# Altium footprint library vga.PcbLib: 95 footprints (part 3 of 7)
Each footprint in its own frame and in the unit in brackets; x right, y up, seen from the top. Pads: shape width x height; smd on the part's side, far side on the other; paste and mask are expansions set on the pad; w line width, h text height; cw(c..) or ccw(c..) is an arc to the next point about the centre after c.
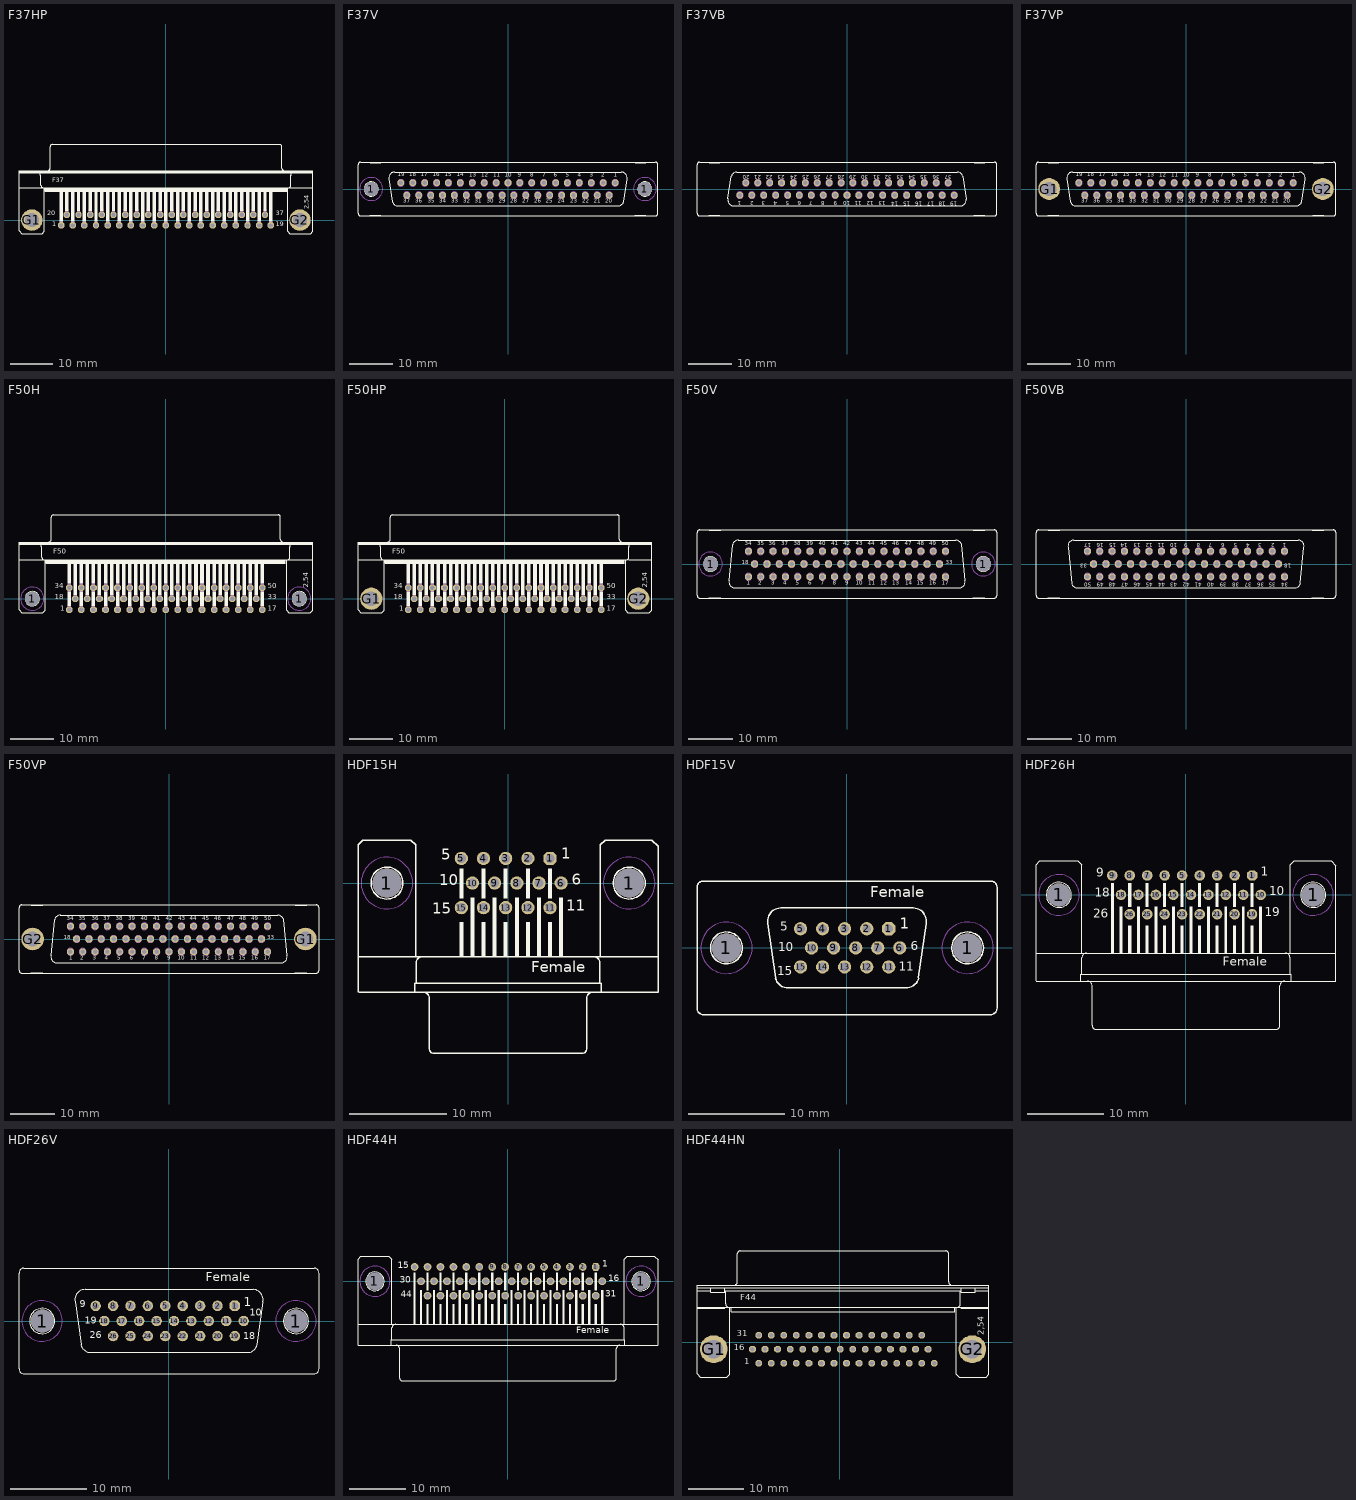
[diagram p2: the footprints below, top view; thin cyan lines are the x and y axes]

## F37HP [mil]
pads (39):
  oct 60x60 hole 40: 1(-978,-50) 2(-869,-50) 3(-761,-50) 4(-652,-50) 5(-543,-50) 6(-435,-50) 7(-326,-50) 8(-217,-50) 9(-109,-50) 10(0,-50) 11(109,-50) 12(217,-50) 13(326,-50) 14(435,-50) 15(544,-50) 16(652,-50) 17(761,-50) 18(870,-50) 19(978,-50) 20(-924,50) 21(-815,50) 22(-706,50) 23(-598,50) 24(-489,50) 25(-380,50) 26(-272,50) 27(-163,50) 28(-54,50) 29(54,50) 30(163,50) 31(272,50) 32(381,50) 33(489,50) 34(598,50) 35(707,50) 36(815,50) 37(924,50)
  round 200 hole 130: G1(-1250,0) G2(1250,0)
Top Overlay:
  circle w6: c-1250,0 r65
  circle w6: c1250,0 r65
  rectangle: -1125,270 1125,300
  rectangle: -1370,440 1370,460
  rectangle: -994,-15 -962,270
  rectangle: -940,85 -908,270
  rectangle: -885,-15 -853,270
  rectangle: -831,85 -799,270
  rectangle: -777,-15 -745,270
  rectangle: -722,85 -690,270
  rectangle: -668,-15 -636,270
  rectangle: -614,85 -582,270
  rectangle: -559,-15 -527,270
  rectangle: -505,85 -473,270
  rectangle: -451,-15 -419,270
  rectangle: -396,85 -364,270
  rectangle: -342,-15 -310,270
  rectangle: -288,85 -256,270
  rectangle: -233,-15 -201,270
  rectangle: -179,85 -147,270
  rectangle: -124,-15 -92,270
  rectangle: -70,85 -38,270
  rectangle: -16,-15 16,270
  rectangle: 38,85 70,270
  rectangle: 93,-15 125,270
  rectangle: 147,85 179,270
  rectangle: 201,-15 233,270
  rectangle: 256,85 288,270
  rectangle: 310,-15 342,270
  rectangle: 364,85 396,270
  rectangle: 419,-15 451,270
  rectangle: 473,85 505,270
  rectangle: 528,-15 560,270
  rectangle: 582,85 614,270
  rectangle: 636,-15 668,270
  rectangle: 691,85 723,270
  rectangle: 746,-15 778,270
  rectangle: 799,85 831,270
  rectangle: 853,-15 885,270
  rectangle: 908,85 940,270
  rectangle: 962,-15 994,270
  lines w6: -1140,300 cw(c-1140,325) -1165,325 -1165,420 -1170,420 -1170,440 ; -1105,460 ccw(c-1105,485) -1080,485 -1080,685 cw(c-1060,685) -1060,705 -1050,705 1050,705 1060,705 cw(c1060,685) 1080,685 1080,485 ccw(c1105,485) 1105,460 ; 1140,300 ccw(c1140,325) 1165,325 1165,420 1170,420 1170,440 ; -1370,300 -1170,300 -1135,300 ; -1370,300 -1370,420 -1370,440 ; -1370,300 -1370,295 -1370,-100 -1345,-125 -1155,-125 -1135,-105 -1135,300 ; -1370,440 -1370,460 -1065,460 1065,460 1370,460 1370,440 ; -1370,440 -1270,440 -1170,440 ; -1170,440 1170,440 ; -1135,300 -1125,300 ; -1125,300 -1125,270 1125,270 1125,300 ; -1125,300 1125,300 ; 1125,300 1135,300 ; 1135,300 1170,300 1370,300 ; 1135,300 1135,-105 1155,-125 1350,-125 1370,-105 1370,295 1370,300 ; 1170,440 1270,440 1370,440 ; 1370,300 1370,420 1370,440
  text "1" at -1060,-75 h77.5
  text "19" at 1025,-75 h77.5
  text "20" at -1105,25 h77.5
  text "37" at 1025,25 h77.5
  text "2,54" at 1350,100 h77.5
  text "F37" at -1060,335 h77.5
Mechanical 2:
  text ">NAME" at -1360,-250 h108.5
Mechanical 4:
  text ">VALUE" at -700,550 h108.5
Mechanical 16:
  lines w32: -978,-45 -978,-5 ; -924,55 -924,95 ; -869,-45 -869,-5 ; -815,55 -815,95 ; -761,-45 -761,-5 ; -706,55 -706,95 ; -652,-45 -652,-5 ; -598,55 -598,95 ; -543,-45 -543,-5 ; -489,55 -489,95 ; -435,-45 -435,-5 ; -380,55 -380,95 ; -326,-45 -326,-5 ; -272,55 -272,95 ; -217,-45 -217,-5 ; -163,55 -163,95 ; -109,-45 -109,-5 ; -54,55 -54,95 ; 0,-45 0,-5 ; 54,55 54,95 ; 109,-45 109,-5 ; 163,55 163,95 ; 217,-45 217,-5 ; 272,55 272,95 ; 326,-45 326,-5 ; 380,55 380,95 ; 435,-45 435,-5 ; 489,55 489,95 ; 544,-45 544,-5 ; 598,55 598,95 ; 652,-45 652,-5 ; 707,55 707,95 ; 761,-45 761,-5 ; 815,55 815,95 ; 870,-45 870,-5 ; 924,55 924,95 ; 978,-45 978,-5

## F37V [mil]
pads (39):
  round 130 hole 130: 1(-1250,0) 1(1250,0)
  oct 60x60 hole 40: 1(978,56) 2(869,56) 3(761,56) 4(652,56) 5(543,56) 6(435,56) 7(326,56) 8(217,56) 9(109,56) 10(0,56) 11(-109,56) 12(-217,56) 13(-326,56) 14(-435,56) 15(-544,56) 16(-652,56) 17(-761,56) 18(-870,56) 19(-978,56) 20(924,-56) 21(815,-56) 22(706,-56) 23(598,-56) 24(489,-56) 25(380,-56) 26(272,-56) 27(163,-56) 28(54,-56) 29(-54,-56) 30(-163,-56) 31(-272,-56) 32(-381,-56) 33(-489,-56) 34(-598,-56) 35(-707,-56) 36(-815,-56) 37(-924,-56)
Top Overlay:
  circle w6: c-1250,0 r65
  circle w6: c1250,0 r65
  lines w6: -1087,92 -1056,-116 ; -1086.97,92 cw(c-1035.16,102.2) -1035,155 1035,155 cw(c1035.22,102.06) 1087,91 1056,-115 ; -1056.3,-115.33 ccw(c-1005,-102) -1005,-155 1005,-155 ccw(c1005.23,-101.7) 1057,-114.37 ; -1260,-245 -1260,-240 -1160,-240 -1160,-245 ; -1260,-245 -1160,-245 ; -1260,-245 -1345,-245 cw(c-1345,-220) -1370,-220 -1370,220 cw(c-1345,220) -1345,245 -1260,245 ; -1260,245 -1260,240 -1160,240 -1160,245 ; -1260,245 -1160,245 ; -1160,-245 1160,-245 ; -1160,245 1160,245 ; 1160,-245 1160,-240 1260,-240 1260,-245 ; 1160,-245 1260,-245 ; 1160,245 1160,240 1260,240 1260,245 ; 1160,245 1260,245 ; 1260,-245 1345,-245 ccw(c1345,-220) 1370,-220 1370,220 ccw(c1345,220) 1345,245 1260,245
  text "1" at 966,100 h60.45
  text "2" at 851,100 h60.45
  text "3" at 746,100 h60.45
  text "4" at 636,100 h60.45
  text "5" at 526,100 h60.45
  text "6" at 416,100 h60.45
  text "7" at 311,100 h60.45
  text "8" at 201,100 h60.45
  text "9" at 91,100 h60.45
  text "10" at -29,100 h60.45
  text "11" at -134,100 h60.45
  text "12" at -244,100 h60.45
  text "13" at -354,100 h60.45
  text "25" at 343,-140 h60.45
  text "24" at 453,-140 h60.45
  text "23" at 568,-140 h60.45
  text "22" at 678,-140 h60.45
  text "21" at 783,-140 h60.45
  text "20" at 888,-140 h60.45
  text "19" at -1007,101 h60.45
  text "18" at -902,101 h60.45
  text "17" at -797,101 h60.45
  text "16" at -687,101 h60.45
  text "15" at -577,101 h60.45
  text "14" at -467,101 h60.45
  text "26" at 240,-140 h60.45
  text "27" at 130,-140 h60.45
  text "28" at 20,-140 h60.45
  text "29" at -85,-140 h60.45
  text "30" at -195,-140 h60.45
  text "31" at -305,-140 h60.45
  text "32" at -410,-140 h60.45
  text "33" at -520,-140 h60.45
  text "34" at -630,-140 h60.45
  text "35" at -735,-140 h60.45
  text "36" at -845,-140 h60.45
  text "37" at -955,-140 h60.45
Mechanical 2:
  text ">NAME" at -1365,275 h108.5
Mechanical 4:
  text ">VALUE" at -100,275 h108.5
Mechanical 9:
  circle w0: c1250,0 r105
  circle w0: c-1250,0 r105
Mechanical 10:
  circle w0: c1250,0 r105
  circle w0: c-1250,0 r105
Mechanical 16:
  circle w10: c54,-56 r30
  circle w10: c0,56 r30
  circle w10: c-54,-56 r30
  circle w10: c109,56 r30
  circle w10: c-109,56 r30
  circle w10: c163,-56 r30
  circle w10: c-163,-56 r30
  circle w10: c217,56 r30
  circle w10: c326,56 r30
  circle w10: c272,-56 r30
  circle w10: c380,-56 r30
  circle w10: c435,56 r30
  circle w10: c489,-56 r30
  circle w10: c543,56 r30
  circle w10: c598,-56 r30
  circle w10: c652,56 r30
  circle w10: c-217,56 r30
  circle w10: c-326,56 r30
  circle w10: c-435,56 r30
  circle w10: c-272,-56 r30
  circle w10: c-380,-56 r30
  circle w10: c-489,-56 r30
  circle w10: c-543,56 r30
  circle w10: c-652,56 r30
  circle w10: c-598,-56 r30
  circle w10: c761,56 r30
  circle w10: c869,56 r30
  circle w10: c978,56 r30
  circle w10: c706,-56 r30
  circle w10: c815,-56 r30
  circle w10: c924,-56 r30
  circle w10: c-761,56 r30
  circle w10: c-869,56 r30
  circle w10: c-978,56 r30
  circle w10: c-706,-56 r30
  circle w10: c-815,-56 r30
  circle w10: c-924,-56 r30

## F37VB [mil]
pads (37):
  oct 60x60 hole 40: 1(-978,-56) 2(-869,-56) 3(-761,-56) 4(-652,-56) 5(-543,-56) 6(-435,-56) 7(-326,-56) 8(-217,-56) 9(-109,-56) 10(0,-56) 11(109,-56) 12(217,-56) 13(326,-56) 14(435,-56) 15(544,-56) 16(652,-56) 17(761,-56) 18(870,-56) 19(978,-56) 20(-924,56) 21(-815,56) 22(-706,56) 23(-598,56) 24(-489,56) 25(-380,56) 26(-272,56) 27(-163,56) 28(-54,56) 29(54,56) 30(163,56) 31(272,56) 32(381,56) 33(489,56) 34(598,56) 35(707,56) 36(815,56) 37(924,56)
Top Overlay:
  lines w6: -1087,-91 -1056,115 ; -1086.79,-90.7 ccw(c-1035,-101.99) -1035,-155 1035,-155 ccw(c1035.01,-101.99) 1087,-91.61 ; -1056.52,115 cw(c-1005.39,102.31) -1005,155 1005,155 cw(c1005.78,101.88) 1057,116 ; 1056,116 1087,-92 ; -1260,-245 -1345,-245 cw(c-1345,-220) -1370,-220 -1370,220 cw(c-1345,220) -1345,245 -1260,245 ; -1260,-245 -1260,-240 -1160,-240 -1160,-245 ; -1260,-245 -1160,-245 ; -1260,245 -1160,245 ; -1260,245 -1260,240 -1160,240 -1160,245 ; -1160,-245 1160,-245 ; -1160,245 1160,245 ; 1160,-245 1160,-240 1260,-240 1260,-245 ; 1160,-245 1260,-245 ; 1160,245 1260,245 ; 1160,245 1160,240 1260,240 1260,245 ; 1260,-245 1345,-245 ccw(c1345,-220) 1370,-220 1370,220 ccw(c1345,220) 1345,245 1260,245
  text "1" at -966,-100 h60.45
  text "2" at -851,-100 h60.45
  text "3" at -746,-100 h60.45
  text "4" at -636,-100 h60.45
  text "5" at -526,-100 h60.45
  text "6" at -416,-100 h60.45
  text "7" at -311,-100 h60.45
  text "8" at -201,-100 h60.45
  text "9" at -91,-100 h60.45
  text "10" at 29,-100 h60.45
  text "11" at 134,-100 h60.45
  text "12" at 244,-100 h60.45
  text "13" at 354,-100 h60.45
  text "25" at -343,140 h60.45
  text "24" at -453,140 h60.45
  text "23" at -568,140 h60.45
  text "22" at -678,140 h60.45
  text "21" at -783,140 h60.45
  text "20" at -888,140 h60.45
  text "19" at 1007,-101 h60.45
  text "18" at 902,-101 h60.45
  text "17" at 797,-101 h60.45
  text "16" at 687,-101 h60.45
  text "15" at 577,-101 h60.45
  text "14" at 467,-101 h60.45
  text "26" at -240,140 h60.45
  text "27" at -130,140 h60.45
  text "28" at -20,140 h60.45
  text "29" at 85,140 h60.45
  text "30" at 195,140 h60.45
  text "31" at 305,140 h60.45
  text "32" at 410,140 h60.45
  text "33" at 520,140 h60.45
  text "34" at 630,140 h60.45
  text "35" at 735,140 h60.45
  text "36" at 845,140 h60.45
  text "37" at 955,140 h60.45
Mechanical 2:
  text ">NAME" at -1365,325 h108.5
Mechanical 4:
  text ">VALUE" at -700,325 h108.5
Mechanical 16:
  circle w10: c-54,56 r30
  circle w10: c0,-56 r30
  circle w10: c54,56 r30
  circle w10: c-109,-56 r30
  circle w10: c109,-56 r30
  circle w10: c-163,56 r30
  circle w10: c163,56 r30
  circle w10: c-217,-56 r30
  circle w10: c-326,-56 r30
  circle w10: c-272,56 r30
  circle w10: c-380,56 r30
  circle w10: c-435,-56 r30
  circle w10: c-489,56 r30
  circle w10: c-543,-56 r30
  circle w10: c-598,56 r30
  circle w10: c-652,-56 r30
  circle w10: c217,-56 r30
  circle w10: c326,-56 r30
  circle w10: c435,-56 r30
  circle w10: c272,56 r30
  circle w10: c380,56 r30
  circle w10: c489,56 r30
  circle w10: c543,-56 r30
  circle w10: c652,-56 r30
  circle w10: c598,56 r30
  circle w10: c-761,-56 r30
  circle w10: c-869,-56 r30
  circle w10: c-978,-56 r30
  circle w10: c-706,56 r30
  circle w10: c-815,56 r30
  circle w10: c-924,56 r30
  circle w10: c761,-56 r30
  circle w10: c869,-56 r30
  circle w10: c978,-56 r30
  circle w10: c706,56 r30
  circle w10: c815,56 r30
  circle w10: c924,56 r30

## F37VP [mil]
pads (39):
  oct 60x60 hole 40: 1(978,56) 2(869,56) 3(761,56) 4(652,56) 5(543,56) 6(435,56) 7(326,56) 8(217,56) 9(109,56) 10(0,56) 11(-109,56) 12(-217,56) 13(-326,56) 14(-435,56) 15(-544,56) 16(-652,56) 17(-761,56) 18(-870,56) 19(-978,56) 20(924,-56) 21(815,-56) 22(706,-56) 23(598,-56) 24(489,-56) 25(380,-56) 26(272,-56) 27(163,-56) 28(54,-56) 29(-54,-56) 30(-163,-56) 31(-272,-56) 32(-381,-56) 33(-489,-56) 34(-598,-56) 35(-707,-56) 36(-815,-56) 37(-924,-56)
  round 200 hole 130: G1(-1250,0) G2(1250,0)
Top Overlay:
  circle w6: c-1250,0 r65
  circle w6: c1250,0 r65
  lines w6: -1087,92 -1056,-116 ; -1086.97,92 cw(c-1035.16,102.2) -1035,155 1035,155 cw(c1035.22,102.06) 1087,91 1056,-115 ; -1056.3,-115.33 ccw(c-1005,-102) -1005,-155 1005,-155 ccw(c1005.23,-101.7) 1057,-114.37 ; -1260,-245 -1260,-240 -1160,-240 -1160,-245 ; -1260,-245 -1160,-245 ; -1260,-245 -1345,-245 cw(c-1345,-220) -1370,-220 -1370,220 cw(c-1345,220) -1345,245 -1260,245 ; -1260,245 -1260,240 -1160,240 -1160,245 ; -1260,245 -1160,245 ; -1160,-245 1160,-245 ; -1160,245 1160,245 ; 1160,-245 1160,-240 1260,-240 1260,-245 ; 1160,-245 1260,-245 ; 1160,245 1160,240 1260,240 1260,245 ; 1160,245 1260,245 ; 1260,-245 1345,-245 ccw(c1345,-220) 1370,-220 1370,220 ccw(c1345,220) 1345,245 1260,245
  text "1" at 966,100 h60.45
  text "2" at 851,100 h60.45
  text "3" at 746,100 h60.45
  text "4" at 636,100 h60.45
  text "5" at 526,100 h60.45
  text "6" at 416,100 h60.45
  text "7" at 311,100 h60.45
  text "8" at 201,100 h60.45
  text "9" at 91,100 h60.45
  text "10" at -29,100 h60.45
  text "11" at -134,100 h60.45
  text "12" at -244,100 h60.45
  text "13" at -354,100 h60.45
  text "25" at 343,-140 h60.45
  text "24" at 453,-140 h60.45
  text "23" at 568,-140 h60.45
  text "22" at 678,-140 h60.45
  text "21" at 783,-140 h60.45
  text "20" at 888,-140 h60.45
  text "19" at -1007,101 h60.45
  text "18" at -902,101 h60.45
  text "17" at -797,101 h60.45
  text "16" at -687,101 h60.45
  text "15" at -577,101 h60.45
  text "14" at -467,101 h60.45
  text "26" at 240,-140 h60.45
  text "27" at 130,-140 h60.45
  text "28" at 20,-140 h60.45
  text "29" at -85,-140 h60.45
  text "30" at -195,-140 h60.45
  text "31" at -305,-140 h60.45
  text "32" at -410,-140 h60.45
  text "33" at -520,-140 h60.45
  text "34" at -630,-140 h60.45
  text "35" at -735,-140 h60.45
  text "36" at -845,-140 h60.45
  text "37" at -955,-140 h60.45
Mechanical 2:
  text ">NAME" at -1365,275 h108.5
Mechanical 4:
  text ">VALUE" at -100,275 h108.5
Mechanical 16:
  circle w10: c54,-56 r30
  circle w10: c0,56 r30
  circle w10: c-54,-56 r30
  circle w10: c109,56 r30
  circle w10: c-109,56 r30
  circle w10: c163,-56 r30
  circle w10: c-163,-56 r30
  circle w10: c217,56 r30
  circle w10: c326,56 r30
  circle w10: c272,-56 r30
  circle w10: c380,-56 r30
  circle w10: c435,56 r30
  circle w10: c489,-56 r30
  circle w10: c543,56 r30
  circle w10: c598,-56 r30
  circle w10: c652,56 r30
  circle w10: c-217,56 r30
  circle w10: c-326,56 r30
  circle w10: c-435,56 r30
  circle w10: c-272,-56 r30
  circle w10: c-380,-56 r30
  circle w10: c-489,-56 r30
  circle w10: c-543,56 r30
  circle w10: c-652,56 r30
  circle w10: c-598,-56 r30
  circle w10: c761,56 r30
  circle w10: c869,56 r30
  circle w10: c978,56 r30
  circle w10: c706,-56 r30
  circle w10: c815,-56 r30
  circle w10: c924,-56 r30
  circle w10: c-761,56 r30
  circle w10: c-869,56 r30
  circle w10: c-978,56 r30
  circle w10: c-706,-56 r30
  circle w10: c-815,-56 r30
  circle w10: c-924,-56 r30

## F50H [mil]
pads (52):
  round 130 hole 130: 1(-1203,0) 1(1203,0)
  oct 60x60 hole 40: 1(-869,-100) 2(-761,-100) 3(-652,-100) 4(-543,-100) 5(-435,-100) 6(-326,-100) 7(-217,-100) 8(-109,-100) 9(0,-100) 10(109,-100) 11(217,-100) 12(326,-100) 13(435,-100) 14(543,-100) 15(652,-100) 16(761,-100) 17(869,-100) 18(-815,0) 19(-707,0) 20(-598,0) 21(-489,0) 22(-381,0) 23(-272,0) 24(-163,0) 25(-55,0) 26(54,0) 27(163,0) 28(271,0) 29(380,0) 30(489,0) 31(598,0) 32(706,0) 33(815,0) 34(-869,100) 35(-761,100) 36(-652,100) 37(-543,100) 38(-435,100) 39(-326,100) 40(-217,100) 41(-109,100) 42(0,100) 43(109,100) 44(217,100) 45(326,100) 46(435,100) 47(543,100) 48(652,100) 49(761,100) 50(869,100)
Top Overlay:
  circle w6: c-1203,0 r65
  circle w6: c1203,0 r65
  rectangle: -1322,490 1323,510
  rectangle: -1077,320 1078,350
  rectangle: -885,-65 -853,65
  rectangle: -831,35 -799,320
  rectangle: -885,135 -853,320
  rectangle: -777,135 -745,320
  rectangle: -668,135 -636,320
  rectangle: -559,135 -527,320
  rectangle: -451,135 -419,320
  rectangle: -342,135 -310,320
  rectangle: -233,135 -201,320
  rectangle: -125,135 -93,320
  rectangle: -16,135 16,320
  rectangle: 93,135 125,320
  rectangle: 201,135 233,320
  rectangle: 419,135 451,320
  rectangle: 310,135 342,320
  rectangle: 527,135 559,320
  rectangle: 636,135 668,320
  rectangle: 745,135 777,320
  rectangle: 853,135 885,320
  rectangle: -777,-66 -745,64
  rectangle: -723,35 -691,320
  rectangle: -668,-65 -636,65
  rectangle: -559,-65 -527,65
  rectangle: -614,35 -582,320
  rectangle: -505,35 -473,320
  rectangle: -397,35 -365,320
  rectangle: -451,-65 -419,65
  rectangle: -342,-65 -310,65
  rectangle: -288,35 -256,320
  rectangle: -233,-65 -201,65
  rectangle: -179,35 -147,320
  rectangle: -125,-65 -93,65
  rectangle: -16,-65 16,65
  rectangle: -71,35 -39,320
  rectangle: 38,35 70,320
  rectangle: 147,35 179,320
  rectangle: 93,-65 125,65
  rectangle: 256,35 288,320
  rectangle: 201,-65 233,65
  rectangle: 310,-65 342,65
  rectangle: 364,35 396,320
  rectangle: 473,35 505,320
  rectangle: 419,-65 451,65
  rectangle: 582,35 614,320
  rectangle: 527,-65 559,65
  rectangle: 636,-65 668,65
  rectangle: 745,-65 777,65
  rectangle: 853,-65 885,65
  rectangle: 690,35 722,320
  rectangle: 799,35 831,320
  lines w6: -1093,350 cw(c-1093,375) -1118,375 -1118,470 -1123,470 -1123,490 ; -1058,510 ccw(c-1058,535) -1033,535 -1033,735 cw(c-1013,735) -1013,755 -1003,755 1003,755 1013,755 cw(c1013,735) 1033,735 1033,535 ccw(c1058,535) 1058,510 ; 1093,350 ccw(c1093,375) 1118,375 1118,470 1123,470 1123,490 ; -1323,350 -1123,350 -1088,350 ; -1323,350 -1323,470 -1323,490 ; -1323,350 -1323,345 -1323,-100 -1298,-125 -1108,-125 -1088,-105 -1088,350 ; -1323,490 -1323,510 -1018,510 1018,510 1323,510 1323,490 ; -1323,490 -1223,490 -1123,490 ; -1123,490 1123,490 ; -1088,350 -1078,350 ; -1078,350 -1078,320 1078,320 1078,350 ; -1078,350 1078,350 ; 1078,350 1088,350 ; 1088,350 1123,350 1323,350 ; 1088,350 1088,-105 1108,-125 1303,-125 1323,-105 1323,345 1323,350 ; 1123,490 1223,490 1323,490 ; 1323,350 1323,470 1323,490
  text "2,54" at 1303,100 h77.5
  text "1" at -953,-125 h77.5
  text "17" at 918,-125 h77.5
  text "18" at -1003,-25 h77.5
  text "50" at 918,75 h77.5
  text "33" at 918,-25 h77.5
  text "34" at -1003,75 h77.5
  text "F50" at -1013,385 h77.5
Mechanical 2:
  text ">NAME" at -1313,-250 h108.5
Mechanical 4:
  text ">VALUE" at -700,550 h108.5
Mechanical 9:
  circle w0: c-1203,0 r105
  circle w0: c1203,0 r105
Mechanical 10:
  circle w0: c-1203,0 r105
  circle w0: c1203,0 r105
Mechanical 16:
  lines w32: -869,-100 -869,-60 ; -869,70 -869,130 ; -815,0 -815,40 ; -761,-100 -761,-60 ; -761,70 -761,130 ; -707,0 -707,40 ; -652,-100 -652,-60 ; -652,70 -652,130 ; -598,0 -598,40 ; -543,-100 -543,-60 ; -543,70 -543,130 ; -489,0 -489,40 ; -435,-100 -435,-60 ; -435,70 -435,130 ; -381,0 -381,40 ; -326,-100 -326,-60 ; -326,70 -326,130 ; -272,0 -272,40 ; -217,-100 -217,-60 ; -217,70 -217,130 ; -163,0 -163,40 ; -109,-100 -109,-60 ; -109,70 -109,130 ; -55,0 -55,40 ; 0,-100 0,-60 ; 0,70 0,130 ; 54,0 54,40 ; 109,-100 109,-60 ; 109,69 109,129 ; 163,0 163,40 ; 217,-100 217,-60 ; 217,70 217,130 ; 272,0 272,40 ; 326,-100 326,-60 ; 326,70 326,130 ; 380,0 380,40 ; 435,-100 435,-60 ; 435,70 435,130 ; 489,0 489,40 ; 543,-100 543,-60 ; 543,70 543,130 ; 598,0 598,40 ; 652,-100 652,-60 ; 652,70 652,130 ; 706,0 706,40 ; 761,-100 761,-60 ; 761,70 761,130 ; 815,0 815,40 ; 869,-100 869,-60 ; 869,70 869,130

## F50HP [mil]
pads (52):
  oct 60x60 hole 40: 1(-869,-100) 2(-761,-100) 3(-652,-100) 4(-543,-100) 5(-435,-100) 6(-326,-100) 7(-217,-100) 8(-109,-100) 9(0,-100) 10(109,-100) 11(217,-100) 12(326,-100) 13(435,-100) 14(543,-100) 15(652,-100) 16(761,-100) 17(869,-100) 18(-815,0) 19(-707,0) 20(-598,0) 21(-489,0) 22(-381,0) 23(-272,0) 24(-163,0) 25(-55,0) 26(54,0) 27(163,0) 28(271,0) 29(380,0) 30(489,0) 31(598,0) 32(706,0) 33(815,0) 34(-869,100) 35(-761,100) 36(-652,100) 37(-543,100) 38(-435,100) 39(-326,100) 40(-217,100) 41(-109,100) 42(0,100) 43(109,100) 44(217,100) 45(326,100) 46(435,100) 47(543,100) 48(652,100) 49(761,100) 50(869,100)
  round 200 hole 130: G1(-1203,0) G2(1203,0)
Top Overlay:
  circle w6: c-1203,0 r65
  circle w6: c1203,0 r65
  rectangle: -1322,490 1323,510
  rectangle: -1077,320 1078,350
  rectangle: -885,-65 -853,65
  rectangle: -831,35 -799,320
  rectangle: -885,135 -853,320
  rectangle: -777,135 -745,320
  rectangle: -668,135 -636,320
  rectangle: -559,135 -527,320
  rectangle: -451,135 -419,320
  rectangle: -342,135 -310,320
  rectangle: -233,135 -201,320
  rectangle: -125,135 -93,320
  rectangle: -16,135 16,320
  rectangle: 93,135 125,320
  rectangle: 201,135 233,320
  rectangle: 419,135 451,320
  rectangle: 310,135 342,320
  rectangle: 527,135 559,320
  rectangle: 636,135 668,320
  rectangle: 745,135 777,320
  rectangle: 853,135 885,320
  rectangle: -777,-66 -745,64
  rectangle: -723,35 -691,320
  rectangle: -668,-65 -636,65
  rectangle: -559,-65 -527,65
  rectangle: -614,35 -582,320
  rectangle: -505,35 -473,320
  rectangle: -397,35 -365,320
  rectangle: -451,-65 -419,65
  rectangle: -342,-65 -310,65
  rectangle: -288,35 -256,320
  rectangle: -233,-65 -201,65
  rectangle: -179,35 -147,320
  rectangle: -125,-65 -93,65
  rectangle: -16,-65 16,65
  rectangle: -71,35 -39,320
  rectangle: 38,35 70,320
  rectangle: 147,35 179,320
  rectangle: 93,-65 125,65
  rectangle: 256,35 288,320
  rectangle: 201,-65 233,65
  rectangle: 310,-65 342,65
  rectangle: 364,35 396,320
  rectangle: 473,35 505,320
  rectangle: 419,-65 451,65
  rectangle: 582,35 614,320
  rectangle: 527,-65 559,65
  rectangle: 636,-65 668,65
  rectangle: 745,-65 777,65
  rectangle: 853,-65 885,65
  rectangle: 690,35 722,320
  rectangle: 799,35 831,320
  lines w6: -1093,350 cw(c-1093,375) -1118,375 -1118,470 -1123,470 -1123,490 ; -1058,510 ccw(c-1058,535) -1033,535 -1033,735 cw(c-1013,735) -1013,755 -1003,755 1003,755 1013,755 cw(c1013,735) 1033,735 1033,535 ccw(c1058,535) 1058,510 ; 1093,350 ccw(c1093,375) 1118,375 1118,470 1123,470 1123,490 ; 1123,345 1123,350 1323,350 ; -1323,350 -1123,350 -1088,350 ; -1323,350 -1323,470 -1323,490 ; -1323,350 -1323,345 -1323,-100 -1298,-125 -1108,-125 -1088,-105 -1088,350 ; -1323,490 -1323,510 -1018,510 1018,510 1323,510 1323,490 ; -1323,490 -1223,490 -1123,490 ; -1123,490 1123,490 ; -1088,350 -1078,350 ; -1078,350 -1078,320 1078,320 1078,350 ; -1078,350 1078,350 ; 1078,350 1088,350 1088,-105 1108,-125 1303,-125 1323,-105 1323,345 1323,350 ; 1123,490 1223,490 1323,490 ; 1323,350 1323,470 1323,490
  text "2,54" at 1303,100 h77.5
  text "1" at -953,-125 h77.5
  text "17" at 918,-125 h77.5
  text "18" at -1003,-25 h77.5
  text "50" at 918,75 h77.5
  text "33" at 918,-25 h77.5
  text "34" at -1003,75 h77.5
  text "F50" at -1013,385 h77.5
Mechanical 2:
  text ">NAME" at -1313,-250 h108.5
Mechanical 4:
  text ">VALUE" at -700,550 h108.5
Mechanical 16:
  lines w32: -869,-100 -869,-60 ; -869,70 -869,130 ; -815,0 -815,40 ; -761,-100 -761,-60 ; -761,70 -761,130 ; -707,0 -707,40 ; -652,-100 -652,-60 ; -652,70 -652,130 ; -598,0 -598,40 ; -543,-100 -543,-60 ; -543,70 -543,130 ; -489,0 -489,40 ; -435,-100 -435,-60 ; -435,70 -435,130 ; -381,0 -381,40 ; -326,-100 -326,-60 ; -326,70 -326,130 ; -272,0 -272,40 ; -217,-100 -217,-60 ; -217,70 -217,130 ; -163,0 -163,40 ; -109,-100 -109,-60 ; -109,70 -109,130 ; -55,0 -55,40 ; 0,-100 0,-60 ; 0,70 0,130 ; 54,0 54,40 ; 109,-100 109,-60 ; 109,69 109,129 ; 163,0 163,40 ; 217,-100 217,-60 ; 217,70 217,130 ; 272,0 272,40 ; 326,-100 326,-60 ; 326,70 326,130 ; 380,0 380,40 ; 435,-100 435,-60 ; 435,70 435,130 ; 489,0 489,40 ; 543,-100 543,-60 ; 543,70 543,130 ; 598,0 598,40 ; 652,-100 652,-60 ; 652,70 652,130 ; 706,0 706,40 ; 761,-100 761,-60 ; 761,70 761,130 ; 815,0 815,40 ; 869,-100 869,-60 ; 869,70 869,130

## F50V [mil]
pads (52):
  round 130 hole 130: 1(-1203,0) 1(1203,0)
  oct 60x60 hole 40: 1(-869,-112) 2(-761,-112) 3(-652,-112) 4(-543,-112) 5(-435,-112) 6(-326,-112) 7(-217,-112) 8(-109,-112) 9(0,-112) 10(109,-112) 11(217,-112) 12(326,-112) 13(435,-112) 14(543,-112) 15(652,-112) 16(761,-112) 17(869,-112) 18(-815,0) 19(-706,0) 20(-598,0) 21(-489,0) 22(-380,0) 23(-272,0) 24(-163,0) 25(-54,0) 26(54,0) 27(163,0) 28(272,0) 29(380,0) 30(489,0) 31(598,0) 32(706,0) 33(815,0) 34(-869,112) 35(-761,112) 36(-652,112) 37(-543,112) 38(-435,112) 39(-326,112) 40(-217,112) 41(-109,112) 42(0,112) 43(109,112) 44(217,112) 45(326,112) 46(435,112) 47(543,112) 48(652,112) 49(761,112) 50(869,112)
Top Overlay:
  circle w6: c1203,0 r65
  circle w6: c-1203,0 r65
  lines w6: -1040,-147 -1009,171 ; -1039.78,-146.7 ccw(c-988,-157.99) -988,-210.99 988,-211 ccw(c988.01,-157.99) 1040,-147.61 ; -1009.54,171 cw(c-957.76,158.81) -958,212 ; -958,211 958,211 cw(c958.78,157.88) 1010,172 ; 1009,172 1040,-148 ; -1213,-301 -1298,-301 cw(c-1298,-276) -1323,-276 -1323,276 cw(c-1298,276) -1298,301 -1213,301 ; -1213,-301 -1213,-296 -1113,-296 -1113,-301 ; -1213,-301 -1113,-301 ; -1213,301 -1113,301 ; -1213,301 -1213,296 -1113,296 -1113,301 ; -1113,-301 1113,-301 ; -1113,301 1113,301 ; 1113,-301 1113,-296 1213,-296 1213,-301 ; 1113,-301 1213,-301 ; 1113,301 1213,301 ; 1113,301 1113,296 1213,296 1213,301 ; 1213,-301 1298,-301 ccw(c1298,-276) 1323,-276 1323,276 ccw(c1298,276) 1298,301 1213,301
  text "2" at -781,-196 h60.45
  text "3" at -666,-196 h60.45
  text "4" at -561,-196 h60.45
  text "5" at -451,-196 h60.45
  text "6" at -341,-196 h60.45
  text "7" at -231,-196 h60.45
  text "8" at -126,-196 h60.45
  text "9" at -16,-196 h60.45
  text "10" at 79,-196 h60.45
  text "11" at 189,-196 h60.45
  text "12" at 294,-196 h60.45
  text "13" at 399,-196 h60.45
  text "18" at -928,-17 h60.45
  text "17" at 837,-197 h60.45
  text "16" at 727,-197 h60.45
  text "15" at 617,-197 h60.45
  text "14" at 512,-197 h60.45
  text "1" at -886,-196 h60.45
  text "33" at 872,-17 h60.45
  text "34" at -903,154 h60.45
  text "35" at -793,154 h60.45
  text "36" at -688,154 h60.45
  text "37" at -578,154 h60.45
  text "38" at -468,154 h60.45
  text "39" at -358,154 h60.45
  text "40" at -250,154 h60.45
  text "41" at -140,154 h60.45
  text "42" at -35,154 h60.45
  text "43" at 75,154 h60.45
  text "44" at 185,154 h60.45
  text "45" at 295,154 h60.45
  text "46" at 400,154 h60.45
  text "47" at 510,154 h60.45
  text "48" at 620,154 h60.45
  text "49" at 725,154 h60.45
  text "50" at 835,154 h60.45
Mechanical 2:
  text ">NAME" at -1300,325 h108.5
Mechanical 4:
  text ">VALUE" at -200,325 h108.5
Mechanical 9:
  circle w0: c-1203,0 r105
  circle w0: c1203,0 r105
Mechanical 10:
  circle w0: c-1203,0 r105
  circle w0: c1203,0 r105
Mechanical 16:
  circle w10: c-54,0 r30
  circle w10: c0,-112 r30
  circle w10: c54,0 r30
  circle w10: c-109,-112 r30
  circle w10: c109,-112 r30
  circle w10: c-163,0 r30
  circle w10: c163,0 r30
  circle w10: c-217,-112 r30
  circle w10: c-326,-112 r30
  circle w10: c-272,0 r30
  circle w10: c-380,0 r30
  circle w10: c-435,-112 r30
  circle w10: c-489,0 r30
  circle w10: c-543,-112 r30
  circle w10: c-598,0 r30
  circle w10: c-652,-112 r30
  circle w10: c217,-112 r30
  circle w10: c326,-112 r30
  circle w10: c435,-112 r30
  circle w10: c272,0 r30
  circle w10: c380,0 r30
  circle w10: c489,0 r30
  circle w10: c543,-112 r30
  circle w10: c652,-112 r30
  circle w10: c598,0 r30
  circle w10: c-761,-112 r30
  circle w10: c-869,-112 r30
  circle w10: c-706,0 r30
  circle w10: c-815,0 r30
  circle w10: c761,-112 r30
  circle w10: c869,-112 r30
  circle w10: c706,0 r30
  circle w10: c815,0 r30
  circle w10: c0,112 r30
  circle w10: c-109,112 r30
  circle w10: c109,112 r30
  circle w10: c-217,112 r30
  circle w10: c-326,112 r30
  circle w10: c-435,112 r30
  circle w10: c-543,112 r30
  circle w10: c-652,112 r30
  circle w10: c217,112 r30
  circle w10: c326,112 r30
  circle w10: c435,112 r30
  circle w10: c543,112 r30
  circle w10: c652,112 r30
  circle w10: c-761,112 r30
  circle w10: c-869,112 r30
  circle w10: c761,112 r30
  circle w10: c869,112 r30

## F50VB [mil]
pads (50):
  oct 60x60 hole 40: 1(869,112) 2(761,112) 3(652,112) 4(543,112) 5(435,112) 6(326,112) 7(217,112) 8(109,112) 9(0,112) 10(-109,112) 11(-217,112) 12(-326,112) 13(-435,112) 14(-543,112) 15(-652,112) 16(-761,112) 17(-869,112) 18(815,0) 19(706,0) 20(598,0) 21(489,0) 22(380,0) 23(272,0) 24(163,0) 25(54,0) 26(-54,0) 27(-163,0) 28(-272,0) 29(-380,0) 30(-489,0) 31(-598,0) 32(-706,0) 33(-815,0) 34(869,-112) 35(761,-112) 36(652,-112) 37(543,-112) 38(435,-112) 39(326,-112) 40(217,-112) 41(109,-112) 42(0,-112) 43(-109,-112) 44(-217,-112) 45(-326,-112) 46(-435,-112) 47(-543,-112) 48(-652,-112) 49(-761,-112) 50(-869,-112)
Top Overlay:
  lines w6: -1040,148 -1009,-172 ; -1039.97,148 cw(c-988.16,158.2) -988,211 988,211 cw(c988.22,158.06) 1040,147 1009,-171 ; -1009.3,-171.33 ccw(c-958,-158) -958,-211 958,-211 ccw(c958.22,-157.71) 1010,-170.37 ; -1213,-301 -1213,-296 -1113,-296 -1113,-301 ; -1213,-301 -1113,-301 ; -1213,-301 -1298,-301 cw(c-1298,-276) -1323,-276 -1323,276 cw(c-1298,276) -1298,301 -1213,301 ; -1213,301 -1213,296 -1113,296 -1113,301 ; -1213,301 -1113,301 ; -1113,-301 1113,-301 ; -1113,301 1113,301 ; 1113,-301 1113,-296 1213,-296 1213,-301 ; 1113,-301 1213,-301 ; 1113,301 1113,296 1213,296 1213,301 ; 1113,301 1213,301 ; 1213,-301 1298,-301 ccw(c1298,-276) 1323,-276 1323,276 ccw(c1298,276) 1298,301 1213,301
  text "2" at 781,196 h60.45
  text "3" at 666,196 h60.45
  text "4" at 561,196 h60.45
  text "5" at 451,196 h60.45
  text "6" at 341,196 h60.45
  text "7" at 231,196 h60.45
  text "8" at 126,196 h60.45
  text "9" at 16,196 h60.45
  text "10" at -79,196 h60.45
  text "11" at -189,196 h60.45
  text "12" at -294,196 h60.45
  text "13" at -399,196 h60.45
  text "18" at 928,17 h60.45
  text "17" at -837,197 h60.45
  text "16" at -727,197 h60.45
  text "15" at -617,197 h60.45
  text "14" at -512,197 h60.45
  text "1" at 886,196 h60.45
  text "33" at -872,17 h60.45
  text "34" at 903,-154 h60.45
  text "35" at 793,-154 h60.45
  text "36" at 688,-154 h60.45
  text "37" at 578,-154 h60.45
  text "38" at 468,-154 h60.45
  text "39" at 358,-154 h60.45
  text "40" at 250,-154 h60.45
  text "41" at 140,-154 h60.45
  text "42" at 35,-154 h60.45
  text "43" at -75,-154 h60.45
  text "44" at -185,-154 h60.45
  text "45" at -295,-154 h60.45
  text "46" at -400,-154 h60.45
  text "47" at -510,-154 h60.45
  text "48" at -620,-154 h60.45
  text "49" at -725,-154 h60.45
  text "50" at -835,-154 h60.45
Mechanical 2:
  text ">NAME" at -1300,325 h108.5
Mechanical 4:
  text ">VALUE" at -200,325 h108.5
Mechanical 16:
  circle w10: c54,0 r30
  circle w10: c0,112 r30
  circle w10: c-54,0 r30
  circle w10: c109,112 r30
  circle w10: c-109,112 r30
  circle w10: c163,0 r30
  circle w10: c-163,0 r30
  circle w10: c217,112 r30
  circle w10: c326,112 r30
  circle w10: c272,0 r30
  circle w10: c380,0 r30
  circle w10: c435,112 r30
  circle w10: c489,0 r30
  circle w10: c543,112 r30
  circle w10: c598,0 r30
  circle w10: c652,112 r30
  circle w10: c-217,112 r30
  circle w10: c-326,112 r30
  circle w10: c-435,112 r30
  circle w10: c-272,0 r30
  circle w10: c-380,0 r30
  circle w10: c-489,0 r30
  circle w10: c-543,112 r30
  circle w10: c-652,112 r30
  circle w10: c-598,0 r30
  circle w10: c761,112 r30
  circle w10: c869,112 r30
  circle w10: c706,0 r30
  circle w10: c815,0 r30
  circle w10: c-761,112 r30
  circle w10: c-869,112 r30
  circle w10: c-706,0 r30
  circle w10: c-815,0 r30
  circle w10: c0,-112 r30
  circle w10: c109,-112 r30
  circle w10: c-109,-112 r30
  circle w10: c217,-112 r30
  circle w10: c326,-112 r30
  circle w10: c435,-112 r30
  circle w10: c543,-112 r30
  circle w10: c652,-112 r30
  circle w10: c-217,-112 r30
  circle w10: c-326,-112 r30
  circle w10: c-435,-112 r30
  circle w10: c-543,-112 r30
  circle w10: c-652,-112 r30
  circle w10: c761,-112 r30
  circle w10: c869,-112 r30
  circle w10: c-761,-112 r30
  circle w10: c-869,-112 r30

## F50VP [mil]
pads (52):
  oct 60x60 hole 40: 1(-869,-112) 2(-761,-112) 3(-652,-112) 4(-543,-112) 5(-435,-112) 6(-326,-112) 7(-217,-112) 8(-109,-112) 9(0,-112) 10(109,-112) 11(217,-112) 12(326,-112) 13(435,-112) 14(543,-112) 15(652,-112) 16(761,-112) 17(869,-112) 18(-815,0) 19(-706,0) 20(-598,0) 21(-489,0) 22(-380,0) 23(-272,0) 24(-163,0) 25(-54,0) 26(54,0) 27(163,0) 28(272,0) 29(380,0) 30(489,0) 31(598,0) 32(706,0) 33(815,0) 34(-869,112) 35(-761,112) 36(-652,112) 37(-543,112) 38(-435,112) 39(-326,112) 40(-217,112) 41(-109,112) 42(0,112) 43(109,112) 44(217,112) 45(326,112) 46(435,112) 47(543,112) 48(652,112) 49(761,112) 50(869,112)
  round 200 hole 130: G1(1203,0) G2(-1203,0)
Top Overlay:
  circle w6: c1203,0 r65
  circle w6: c-1203,0 r65
  lines w6: -1040,-147 -1009,171 ; -1039.78,-146.7 ccw(c-988,-157.99) -988,-210.99 988,-211 ccw(c988.01,-157.99) 1040,-147.61 ; -1009.54,171 cw(c-957.76,158.81) -958,212 ; -958,211 958,211 cw(c958.78,157.88) 1010,172 ; 1009,172 1040,-148 ; -1213,-301 -1298,-301 cw(c-1298,-276) -1323,-276 -1323,276 cw(c-1298,276) -1298,301 -1213,301 ; -1213,-301 -1213,-296 -1113,-296 -1113,-301 ; -1213,-301 -1113,-301 ; -1213,301 -1113,301 ; -1213,301 -1213,296 -1113,296 -1113,301 ; -1113,-301 1113,-301 ; -1113,301 1113,301 ; 1113,-301 1113,-296 1213,-296 1213,-301 ; 1113,-301 1213,-301 ; 1113,301 1213,301 ; 1113,301 1113,296 1213,296 1213,301 ; 1213,-301 1298,-301 ccw(c1298,-276) 1323,-276 1323,276 ccw(c1298,276) 1298,301 1213,301
  text "2" at -781,-196 h60.45
  text "3" at -671,-196 h60.45
  text "4" at -566,-196 h60.45
  text "5" at -456,-196 h60.45
  text "6" at -346,-196 h60.45
  text "7" at -236,-196 h60.45
  text "8" at -126,-196 h60.45
  text "9" at -16,-196 h60.45
  text "10" at 79,-196 h60.45
  text "11" at 189,-196 h60.45
  text "12" at 294,-196 h60.45
  text "13" at 399,-196 h60.45
  text "18" at -928,-17 h60.45
  text "17" at 837,-197 h60.45
  text "16" at 727,-197 h60.45
  text "15" at 617,-197 h60.45
  text "14" at 512,-197 h60.45
  text "1" at -881,-196 h60.45
  text "33" at 867,-17 h60.45
  text "34" at -903,154 h60.45
  text "35" at -798,154 h60.45
  text "36" at -683,154 h60.45
  text "37" at -578,154 h60.45
  text "38" at -468,154 h60.45
  text "39" at -358,154 h60.45
  text "40" at -250,154 h60.45
  text "41" at -140,154 h60.45
  text "42" at -30,154 h60.45
  text "43" at 80,154 h60.45
  text "44" at 185,154 h60.45
  text "45" at 295,154 h60.45
  text "46" at 400,154 h60.45
  text "47" at 515,154 h60.45
  text "48" at 620,154 h60.45
  text "49" at 725,154 h60.45
  text "50" at 840,154 h60.45
Mechanical 2:
  text ">NAME" at -1300,325 h108.5
Mechanical 4:
  text ">VALUE" at -200,325 h108.5
Mechanical 16:
  circle w10: c-54,0 r30
  circle w10: c0,-112 r30
  circle w10: c54,0 r30
  circle w10: c-109,-112 r30
  circle w10: c109,-112 r30
  circle w10: c-163,0 r30
  circle w10: c163,0 r30
  circle w10: c-217,-112 r30
  circle w10: c-326,-112 r30
  circle w10: c-272,0 r30
  circle w10: c-380,0 r30
  circle w10: c-435,-112 r30
  circle w10: c-489,0 r30
  circle w10: c-543,-112 r30
  circle w10: c-598,0 r30
  circle w10: c-652,-112 r30
  circle w10: c217,-112 r30
  circle w10: c326,-112 r30
  circle w10: c435,-112 r30
  circle w10: c272,0 r30
  circle w10: c380,0 r30
  circle w10: c489,0 r30
  circle w10: c543,-112 r30
  circle w10: c652,-112 r30
  circle w10: c598,0 r30
  circle w10: c-761,-112 r30
  circle w10: c-869,-112 r30
  circle w10: c-706,0 r30
  circle w10: c-815,0 r30
  circle w10: c761,-112 r30
  circle w10: c869,-112 r30
  circle w10: c706,0 r30
  circle w10: c815,0 r30
  circle w10: c0,112 r30
  circle w10: c-109,112 r30
  circle w10: c109,112 r30
  circle w10: c-217,112 r30
  circle w10: c-326,112 r30
  circle w10: c-435,112 r30
  circle w10: c-543,112 r30
  circle w10: c-652,112 r30
  circle w10: c217,112 r30
  circle w10: c326,112 r30
  circle w10: c435,112 r30
  circle w10: c543,112 r30
  circle w10: c652,112 r30
  circle w10: c-761,112 r30
  circle w10: c-869,112 r30
  circle w10: c761,112 r30
  circle w10: c869,112 r30

## HDF15H [mil]
pads (17):
  round 119 hole 119: 1(-492.13,0) 1(493,0)
  oct 54x54 hole 36: 1(171,100)
  round 54 hole 36: 2(81,100) 3(-9.57,100) 4(-99.57,100) 5(-189.57,100) 6(216,0) 7(126,0) 8(36,0) 9(-54.57,0) 10(-144.57,0) 11(171,-100) 12(81,-100) 13(-9.57,-100) 14(-99.57,-100) 15(-189.57,-100)
Top Overlay:
  circle w6: c493,0 r65
  circle w6: c-492.13,0 r65
  rectangle: 28,-299.21 44,-59.06
  rectangle: -62.44,-299.21 -46.69,-59.06
  rectangle: -152.44,-299.21 -136.69,-59.06
  rectangle: 118,-299.21 134,-59.06
  rectangle: 208,-299.21 224,-59.06
  rectangle: -17.44,-299.21 -1.69,-157.48
  rectangle: -107.44,-299.21 -91.69,-157.48
  rectangle: -197.44,-299.21 -181.69,-157.48
  rectangle: 73,-299.21 89,-157.48
  rectangle: 163,-299.21 179,-157.48
  rectangle: -197.44,-62.99 -181.69,60
  rectangle: -107.44,-62.99 -91.69,60
  rectangle: -17.44,-62.99 -1.69,60
  rectangle: 73,-62.99 89,60
  rectangle: 163,-62.99 179,60
  lines w6: -610,-443.94 -610,-300 ; -605.51,-444.65 610,-444.65 ; -378.5,-443.94 -378.5,-408.19 -373.5,-408.19 ; -375,-300 -375,155 -395,175 -590,175 -610,155 -610,-300 ; -348.5,-300 ccw(c-348.5,-325) -373.5,-325 -373.5,-408.19 ; -345,-444.25 cw(c-345,-469.25) -320,-469.25 -320,-673.19 ccw(c-300,-673.19) -300,-693.19 300,-693.19 ccw(c300,-673.19) 320,-673.19 320,-469.25 cw(c345,-469.25) 345,-444.25 ; 349,-300 cw(c349,-325) 374,-325 374,-408.19 ; 375,-300 375,155 395,175 585,175 610,150 610,-443.94 ; 379,-443.94 379,-408.19 374,-408.19 ; 610,-300 -610,-300 ; -373.5,-408.19 374,-408.19
  text "1" at 216,83 h77.5
  text "5" at -272.24,79 h77.5
  text "6" at 260,-22.24 h77.5
  text "10" at -280.12,-26.18 h77.5
  text "15" at -307.87,-140.35 h77.5
  text "11" at 236,-128.54 h77.5
  text "Female" at 95,-380 h77.5
Mechanical 2:
  text ">NAME" at -350,200 h108.5
Mechanical 4:
  text ">VALUE" at 0,200 h108.5
Mechanical 9:
  circle w0: c493,0 r105
  circle w0: c-492.13,0 r105
Mechanical 10:
  circle w0: c493,0 r105
  circle w0: c-492.13,0 r105
Mechanical 16:
  text "HDF15 CONEC" at -238.74,-579.41 h77.5

## HDF15V [mil]
pads (17):
  round 119 hole 119: 1(-492.13,0) 1(493,0)
  oct 54x54 hole 36: 1(171,78)
  round 54 hole 36: 2(81,78) 3(-9.57,78) 4(-99.57,78) 5(-189.57,78) 6(216,0) 7(126,0) 8(36,0) 9(-54.57,0) 10(-144.57,0) 11(171,-77.95) 12(81,-77.95) 13(-9.57,-77.95) 14(-99.57,-77.95) 15(-189.57,-77.95)
Top Overlay:
  circle w6: c493,0 r65
  circle w6: c-492.13,0 r65
  lines w6: -587.44,-272.56 cw(c-587.44,-247.56) -612.44,-247.56 -612.44,248 cw(c-587.44,248) -587.44,273 588,273 cw(c588,248) 613,248 613,-247.56 cw(c588,-247.56) 588,-272.56 -587.13,-272.56 ; -292,-123.21 ccw(c-240.71,-109.87) -240.71,-162.87 241,-162.87 ccw(c241.35,-109.42) 293,-123.21 ; -291.69,-123.86 -322.72,100 cw(c-270.87,110.2) -270.71,163 271,163 cw(c271.22,110.06) 323,99 292,-122.87
  text "1" at 216,61 h77.5
  text "5" at -272.24,57 h62
  text "6" at 260,-22.24 h62
  text "10" at -280.12,-26.18 h62
  text "15" at -284.25,-124.61 h62
  text "11" at 212,-106.5 h62
  text "Female" at 95,190 h77.5
Mechanical 2:
  text ">NAME" at -450,300 h108.5
Mechanical 4:
  text ">VALUE" at -400,-250 h108.5
Mechanical 9:
  circle w0: c493,0 r105
  circle w0: c-492.13,0 r105
Mechanical 10:
  circle w0: c493,0 r105
  circle w0: c-492.13,0 r105
Mechanical 16:
  text "HDF15 CONEC" at -473.74,211 h77.5

## HDF26H [mil]
pads (28):
  round 119 hole 119: 1(-655.51,0) 1(656,0)
  oct 54x54 hole 36: 1(341,100)
  round 54 hole 36: 2(251,100) 3(161,100) 4(71,100) 5(-19.88,100) 6(-109.88,100) 7(-199.88,100) 8(-289.88,100) 9(-379.88,100) 10(386,0) 11(296,0) 12(206,0) 13(116,0) 14(26,0) 15(-64.88,0) 16(-154.88,0) 17(-244.88,0) 18(-334.88,0) 19(341,-100) 20(251,-100) 21(161,-100) 22(71,-100) 23(-19.88,-100) 24(-109.88,-100) 25(-199.88,-100) 26(-289.88,-100)
Top Overlay:
  circle w6: c656,0 r65
  circle w6: c-655.51,0 r65
  rectangle: 198,-299.21 213,-59.06
  rectangle: 108,-299.21 123,-59.06
  rectangle: 18,-299.21 33,-59.06
  rectangle: 288,-299.21 303,-59.06
  rectangle: 378,-299.21 393,-59.06
  rectangle: 153,-299.21 168,-157.48
  rectangle: 63,-299.21 78,-157.48
  rectangle: -27.76,-299.21 -12.01,-157.48
  rectangle: 243,-299.21 258,-157.48
  rectangle: 333,-299.21 348,-157.48
  rectangle: -27.76,-62.99 -12.01,60
  rectangle: 63,-62.99 78,60
  rectangle: 153,-62.99 168,60
  rectangle: 243,-62.99 258,60
  rectangle: 333,-62.99 348,60
  rectangle: -252.76,-299.21 -237.01,-59.06
  rectangle: -342.76,-299.21 -327.01,-59.06
  rectangle: -162.76,-299.21 -147.01,-59.06
  rectangle: -297.76,-299.21 -282.01,-157.48
  rectangle: -207.76,-299.21 -192.01,-157.48
  rectangle: -117.76,-299.21 -102.01,-157.48
  rectangle: -72.76,-299.21 -57.01,-59.06
  rectangle: -117.76,-62.99 -102.01,60
  rectangle: -207.76,-62.99 -192.01,60
  rectangle: -297.76,-62.99 -282.01,60
  rectangle: -387.76,-62.99 -372.01,60
  rectangle: -387.76,-299.21 -372.01,-59.06
  lines w6: -773.39,-443.94 -773.39,-300 ; -771.65,-444.88 772,-444.88 ; -541.89,-443.94 -541.89,-408.19 -536.89,-408.19 ; -538.39,-300 -538.39,155 -558.39,175 -753.39,175 -773.39,155 -773.39,-300 ; -511.89,-300 ccw(c-511.89,-325) -536.89,-325 -536.89,-408.19 ; -508.39,-444.25 cw(c-508.39,-469.25) -483.39,-469.25 -483.39,-673.19 ccw(c-463.39,-673.19) -463.39,-693.19 464,-693.19 ccw(c464,-673.19) 484,-673.19 484,-469.25 cw(c509,-469.25) 509,-444.25 ; 512,-300 cw(c512,-325) 537,-325 537,-408.19 ; 539,-300 539,155 559,175 749,175 774,150 774,-443.94 ; 542,-443.94 542,-408.19 537,-408.19 ; 770,-300 -773.39,-300 ; -536.89,-408.19 537,-408.19
  text "1" at 386,83 h77.5
  text "10" at 429,-18.31 h77.5
  text "9" at -462.56,79 h77.5
  text "18" at -470.43,-26.18 h77.5
  text "19" at 406,-124.61 h77.5
  text "26" at -476.81,-132.48 h77.5
  text "Female" at 190,-380 h77.5
Mechanical 2:
  text ">NAME" at -400,150 h108.5
Mechanical 4:
  text ">VALUE" at 0,150 h108.5
Mechanical 9:
  circle w0: c656,0 r105
  circle w0: c-655.51,0 r105
Mechanical 10:
  circle w0: c656,0 r105
  circle w0: c-655.51,0 r105
Mechanical 16:
  text "HDF26 CONEC" at -428.74,-389.41 h77.5

## HDF26V [mil]
pads (28):
  round 119 hole 119: 1(-655.51,0) 1(656,0)
  oct 54x54 hole 36: 1(341,78)
  round 54 hole 36: 2(251,78) 3(161,78) 4(71,78) 5(-19.13,78) 6(-109.13,78) 7(-199.13,78) 8(-289.13,78) 9(-379.13,78) 10(386,0) 11(296,0) 12(206,0) 13(116,0) 14(26,0) 15(-64.13,0) 16(-154.13,0) 17(-244.13,0) 18(-334.13,0) 19(341,-77.95) 20(251,-77.95) 21(161,-77.95) 22(71,-77.95) 23(-19.13,-77.95) 24(-109.13,-77.95) 25(-199.13,-77.95) 26(-289.13,-77.95)
Top Overlay:
  circle w6: c657,0 r65
  circle w6: c-656.39,0 r65
  lines w6: -750.83,-272.56 cw(c-750.83,-247.56) -775.83,-247.56 -775.83,248 cw(c-750.83,248) -750.83,273 751,273 cw(c751,248) 776,248 776,-247.56 cw(c751,-247.56) 751,-272.56 -750.51,-272.56 ; -486.1,100 -455.08,-123.86 ; -486.07,100 cw(c-434.26,110.2) -434.09,163 435,163 cw(c434.72,110.46) 486,99 ; -455.39,-123.21 ccw(c-404.09,-109.87) -404.09,-162.87 405,-162.87 ccw(c404.85,-110.06) 456,-123.21 ; 456,-122.87 487,99
  text "1" at 387,61 h77.5
  text "19" at -436.5,-26.18 h62
  text "26" at -409.13,-102.56 h62
  text "18" at 383,-106.5 h62
  text "10" at 419,14 h62
  text "9" at -461.81,57 h62
  text "Female" at 190,190 h77.5
Mechanical 2:
  text ">NAME" at -450,300 h108.5
Mechanical 4:
  text ">VALUE" at -400,-250 h108.5
Mechanical 9:
  circle w0: c657,0 r105
  circle w0: c-656.39,0 r105
Mechanical 10:
  circle w0: c657,0 r105
  circle w0: c-656.39,0 r105
Mechanical 16:
  text "HDF26 CONEC" at -378.74,211 h77.5

## HDF44H [mil]
pads (46):
  round 119 hole 119: 1(-925.98,0) 1(926,0)
  oct 54x54 hole 36: 1(611,100)
  round 54 hole 36: 2(521,100) 3(431,100) 4(341,100) 5(251,100) 6(161,100) 7(71,100) 8(-19.88,100) 9(-109.88,100) 10(-199.88,100) 11(-289.88,100) 12(-379.88,100) 13(-469.88,100) 14(-559.88,100) 15(-649.88,100) 16(656,0) 17(566,0) 18(476,0) 19(386,0) 20(296,0) 21(206,0) 22(116,0) 23(26,0) 24(-64.88,0) 25(-154.88,0) 26(-244.88,0) 27(-334.88,0) 28(-424.88,0) 29(-514.88,0) 30(-604.88,0) 31(611,-100) 32(521,-100) 33(431,-100) 34(341,-100) 35(251,-100) 36(161,-100) 37(71,-100) 38(-19.88,-100) 39(-109.88,-100) 40(-199.88,-100) 41(-289.88,-100) 42(-379.88,-100) 43(-469.88,-100) 44(-559.88,-100)
Top Overlay:
  circle w6: c926,0 r65
  circle w6: c-925.98,0 r65
  rectangle: 468,-299.21 483,-59.06
  rectangle: 378,-299.21 393,-59.06
  rectangle: 288,-299.21 303,-59.06
  rectangle: 558,-299.21 573,-59.06
  rectangle: 648,-299.21 663,-59.06
  rectangle: 423,-299.21 438,-157.48
  rectangle: 333,-299.21 348,-157.48
  rectangle: 243,-299.21 258,-157.48
  rectangle: 513,-299.21 528,-157.48
  rectangle: 603,-299.21 618,-157.48
  rectangle: 243,-62.99 258,60
  rectangle: 333,-62.99 348,60
  rectangle: 423,-62.99 438,60
  rectangle: 513,-62.99 528,60
  rectangle: 603,-62.99 618,60
  rectangle: 18,-299.21 33,-59.06
  rectangle: -72.76,-299.21 -57.01,-59.06
  rectangle: 108,-299.21 123,-59.06
  rectangle: -27.76,-299.21 -12.01,-157.48
  rectangle: 63,-299.21 78,-157.48
  rectangle: 153,-299.21 168,-157.48
  rectangle: 198,-299.21 213,-59.06
  rectangle: 153,-62.99 168,60
  rectangle: 63,-62.99 78,60
  rectangle: -27.76,-62.99 -12.01,60
  rectangle: -162.76,-299.21 -147.01,-59.06
  rectangle: -252.76,-299.21 -237.01,-59.06
  rectangle: -342.76,-299.21 -327.01,-59.06
  rectangle: -207.76,-299.21 -192.01,-157.48
  rectangle: -297.76,-299.21 -282.01,-157.48
  rectangle: -387.76,-299.21 -372.01,-157.48
  rectangle: -117.76,-299.21 -102.01,-157.48
  rectangle: -612.76,-299.21 -597.01,-59.06
  rectangle: -657.76,-299.21 -642.01,-59.06
  rectangle: -522.76,-299.21 -507.01,-59.06
  rectangle: -567.76,-299.21 -552.01,-157.48
  rectangle: -477.76,-299.21 -462.01,-157.48
  rectangle: -432.76,-299.21 -417.01,-59.06
  rectangle: -387.76,-62.99 -372.01,60
  rectangle: -297.76,-62.99 -282.01,60
  rectangle: -207.76,-62.99 -192.01,60
  rectangle: -117.76,-62.99 -102.01,60
  rectangle: -477.76,-62.99 -462.01,60
  rectangle: -567.76,-62.99 -552.01,60
  rectangle: -657.76,-62.99 -642.01,60
  lines w6: -1043.86,-443.94 -1043.86,-300 ; -1042.13,-444.88 1043,-444.88 ; -812.36,-443.94 -812.36,-408.19 -807.36,-408.19 ; -808.86,-300 -808.86,155 -828.86,175 -1023.86,175 -1043.86,155 -1043.86,-300 ; -782.36,-300 ccw(c-782.36,-325) -807.36,-325 -807.36,-408.19 ; -778.86,-444.25 cw(c-778.86,-469.25) -753.86,-469.25 -753.86,-673.19 ccw(c-733.86,-673.19) -733.86,-693.19 734,-693.19 ccw(c734,-673.19) 754,-673.19 754,-469.25 cw(c779,-469.25) 779,-444.25 ; 783,-300 cw(c783,-325) 808,-325 808,-408.19 ; 809,-300 809,155 829,175 1019,175 1044,150 1044,-443.94 ; 813,-443.94 813,-408.19 808,-408.19 ; 1041,-300 -1043.86,-300 ; -807.36,-408.19 808,-408.19
  text "1" at 656,83 h77.5
  text "16" at 699,-18.31 h77.5
  text "31" at 676,-124.61 h77.5
  text "15" at -766.3,75 h77.5
  text "30" at -752.24,-26.18 h77.5
  text "44" at -746.81,-128.54 h77.5
  text "Female" at 475,-380 h77.5
Mechanical 2:
  text ">NAME" at -400,150 h108.5
Mechanical 4:
  text ">VALUE" at 0,150 h108.5
Mechanical 9:
  circle w0: c926,0 r105
  circle w0: c-925.98,0 r105
Mechanical 10:
  circle w0: c926,0 r105
  circle w0: c-925.98,0 r105
Mechanical 16:
  text "HDF44 CONEC" at -713.74,-389.41 h77.5

## HDF44HN [mil]
pads (46):
  oct 48x48 hole 32: 1(-580,-150) 2(-490,-150) 3(-400,-150) 4(-310,-150) 5(-220,-150) 6(-130,-150) 7(-40,-150) 8(50,-150) 9(140,-150) 10(230,-150) 11(320,-150) 12(410,-150) 13(500,-150) 14(590,-150) 15(680,-150) 16(-625,-50) 17(-535,-50) 18(-445,-50) 19(-355,-50) 20(-265,-50) 21(-175,-50) 22(-85,-50) 23(5,-50) 24(95,-50) 25(185,-50) 26(275,-50) 27(365,-50) 28(455,-50) 29(545,-50) 30(635,-50) 31(-580,50) 32(-490,50) 33(-400,50) 34(-310,50) 35(-220,50) 36(-130,50) 37(-40,50) 38(50,50) 39(140,50) 40(230,50) 41(320,50) 42(410,50) 43(500,50) 44(590,50)
  round 200 hole 130: G1(-903,-50) G2(952,-50)
Top Overlay:
  circle w6: c-903,-50 r65
  circle w6: c952,-50 r65
  lines w6: -793,250 cw(c-793,275) -818,275 -818,370 ; -758,410 ccw(c-758,435) -733,435 -733,635 cw(c-713,635) -713,655 762,655 cw(c762,635) 782,635 782,435 ccw(c807,435) 807,410 ; 842,250 ccw(c842,275) 867,275 867,370 ; -1023,245 -1023,250 ; -1023,245 -823,245 -823,250 ; -1023,245 -1023,-225 -998,-250 -808,-250 -788,-230 -788,250 ; -1023,250 -823,250 ; -1023,250 -1023,370 ; -1023,370 -923,370 ; -1023,370 -1023,390 ; -1023,390 -1023,410 1072,410 1072,390 ; -1023,390 -923,390 ; -923,370 -923,390 ; -923,370 -923,360 -823,360 -823,370 ; -923,390 -823,390 ; -823,250 -788,250 ; -823,370 -823,390 ; -823,370 -818,370 ; -823,390 872,390 ; -818,370 867,370 ; -788,250 -778,250 ; -778,250 -778,220 827,220 827,250 ; -778,250 827,250 ; 827,250 837,250 ; 837,250 872,250 ; 837,250 837,-230 857,-250 1052,-250 1072,-230 1072,245 ; 867,370 872,370 ; 872,250 872,245 1072,245 ; 872,250 1072,250 ; 872,370 872,360 972,360 972,370 ; 872,370 872,390 ; 872,390 972,390 ; 972,370 972,390 ; 972,370 1072,370 ; 972,390 1072,390 ; 1072,245 1072,250 ; 1072,250 1072,370 ; 1072,370 1072,390
  text "2,54" at 1052,50 h77.5
  text "1" at -682.53,-175 h77.5
  text "F44" at -713,285 h77.5
  text "16" at -759.06,-75 h77.5
  text "31" at -739.37,25 h77.5
Mechanical 2:
  text ">NAME" at -1013,-350 h108.5
Mechanical 4:
  text ">VALUE" at -650,450 h108.5